# EAGLE library part LT1965 (library Linear)
LT1965 1.1A LDO Adjustable Linear Regulator Linear Technology Inc Output Current: 1.1A Dropout Voltage: 310mV Low Noise: 40uVRMS Input Range: 1.8V to 20V Adjustable output from 1.20V to 19.5V 500uA Quiescent Current (less than 1uA in shutdown) Stable with Ceramic, Tantalum, or Aluminum capacitors Available in 5-lead TO-220, DD-PAK, 8-Lead MSOP, and 8-Lead 3mm x 3mm DFN packages. Also available as fixed voltages: 1.5V, 1.8V, 2.5V, 3.3V
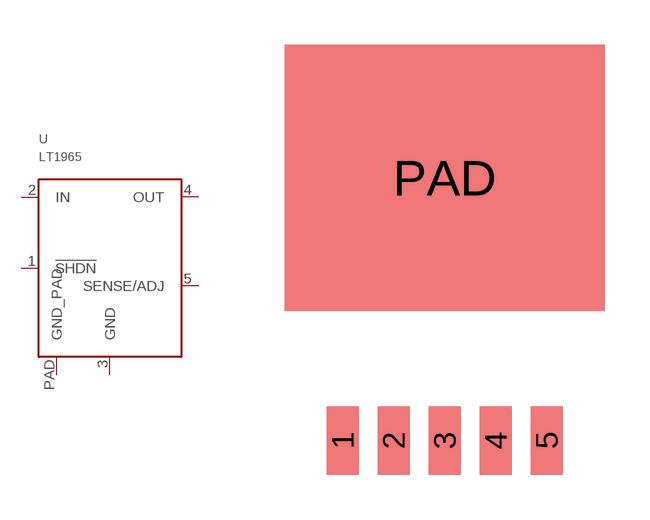
[diagram p1: symbol with the pads of DD-PAK-5; footprint DD-PAK-5]

Designator prefix U

## LT1965Q  [DD-PAK-5]
1  !SHDN
2  IN
3  GND
4  OUT
5  SENSE/ADJ
PAD  GND_PAD

## Footprint DD-PAK-5 (pad centres in mm)
5-Lead Plastic DD Pak 5 surface-mount pads, 0.067" pitch, 0.042"x0.090" Heatsink pad: 0.420"x0.350"
smd 1.067 x 2.286: 1 -3.404,0; 2 -1.702,0; 3 0,0; 4 1.702,0; 5 3.404,0
smd 10.668 x 8.89: PAD 0,8.763